# Altium schematic symbol library sensor_hall.SchLib: 1 symbol
Pins are listed as number, name and electrical type; pins without a type are passive.

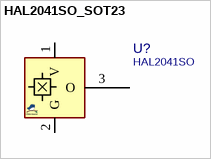
[diagram p0: symbol HAL2041SO_SOT23]

## HAL2041SO_SOT23
designator U?, comment HAL2041SO
Sensor, Pyroelectric Infrared Radial; MANF: PIR; MANF_P#: HAL2041SO; PACKAGE: SOT-23; VALUE: HAL2041SO
footprint SOT23_3 (SOT-23, Micro3, MO-178, TO-236AB, MO-193C, SuperSOT3, SC-59, 1.5x3mm, Pitch 1.9mm)
pins: 1 V "Drain", 2 G "Ground", 3 O "Source"